# EAGLE library part CBM_USERPORT-EDGE (library commodore)
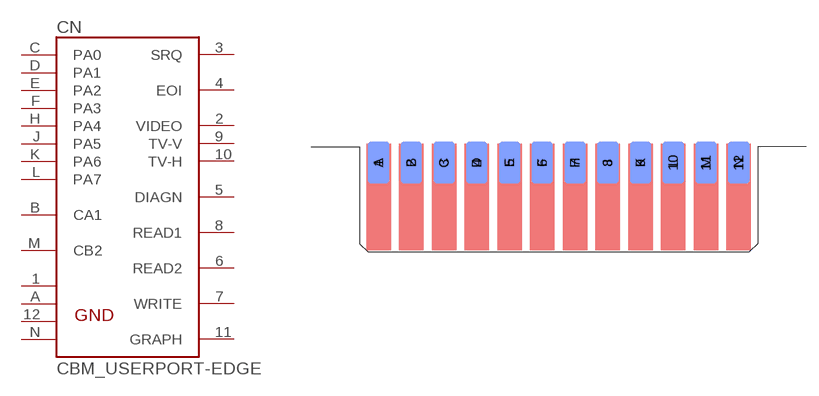
[diagram p33: symbol with the pads of UPS24EDGE; footprint UPS24EDGE]

Designator prefix CN

## CBM_USERPORT-EDGE  [UPS24EDGE]
1  GND1  pas
2  VIDEO
3  SRQ  in
4  EOI
5  DIAGN
6  READ2
7  WRITE
8  READ1  in
9  TV-V
10  TV-H
11  GRAPH  pas
12  GND3  pas
A  GND2  pas
B  CA1  in
C  PA0
D  PA1
E  PA2
F  PA3
H  PA4
J  PA5
K  PA6
L  PA7
M  CB2
N  GND4  pas

## Footprint UPS24EDGE (pad centres in mm)
smd 2.54 x 5.08: 1 -21.779,3.68; 2 -17.819,3.68; 3 -13.859,3.68; 4 -9.899,3.68; 5 -5.939,3.68; 6 -1.979,3.68; 7 1.981,3.68; 8 5.941,3.68; 9 9.901,3.68; 10 13.861,3.68; 11 17.821,3.68; 12 21.781,3.68
smd 2.54 x 5.08 bottom: A -21.779,3.68; B -17.819,3.68; C -13.859,3.68; D -9.899,3.68; E -5.939,3.68; F -1.979,3.68; H 1.981,3.68; J 5.941,3.68; K 9.901,3.68; L 13.861,3.68; M 17.821,3.68; N 21.781,3.68